# EAGLE library part SN74HC251 (library geoffculp)
SN54HC251 Data Selector/Multiplexer
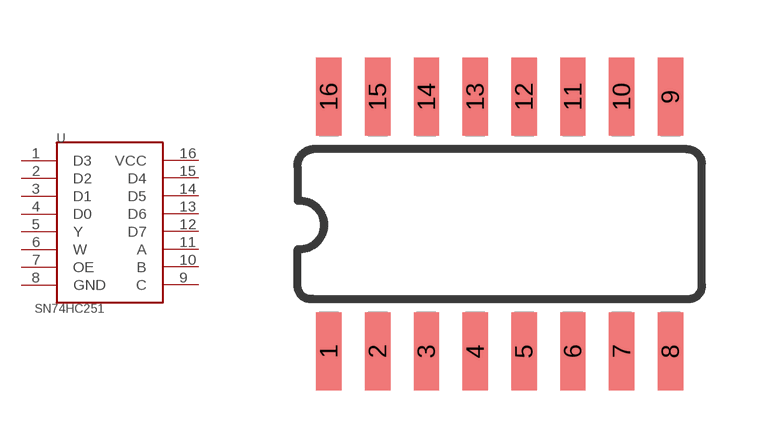
[diagram p276: symbol with the pads of SO016; footprint SO016]

Designator prefix U

## SN74HC251_SMD  [SO016]
1  D3
2  D2
3  D1
4  D0
5  Y
6  W
7  OE
8  GND
9  C
10  B
11  A
12  D7
13  D6
14  D5
15  D4
16  VCC

## Footprint SO016 (pad centres in mm)
smd 0.66 x 2.032: 1 -4.445,-3.315; 2 -3.175,-3.315; 3 -1.905,-3.315; 4 -0.635,-3.315; 5 0.635,-3.315; 6 1.905,-3.315; 7 3.175,-3.315; 8 4.445,-3.315; 9 4.445,3.315; 10 3.175,3.315; 11 1.905,3.315; 12 0.635,3.315; 13 -0.635,3.315; 14 -1.905,3.315; 15 -3.175,3.315; 16 -4.445,3.315